# Altium schematic symbol library FPGA_Efinix_Trion.SchLib: 1 symbol
Pins are listed as number, name and electrical type; pins without a type are passive.

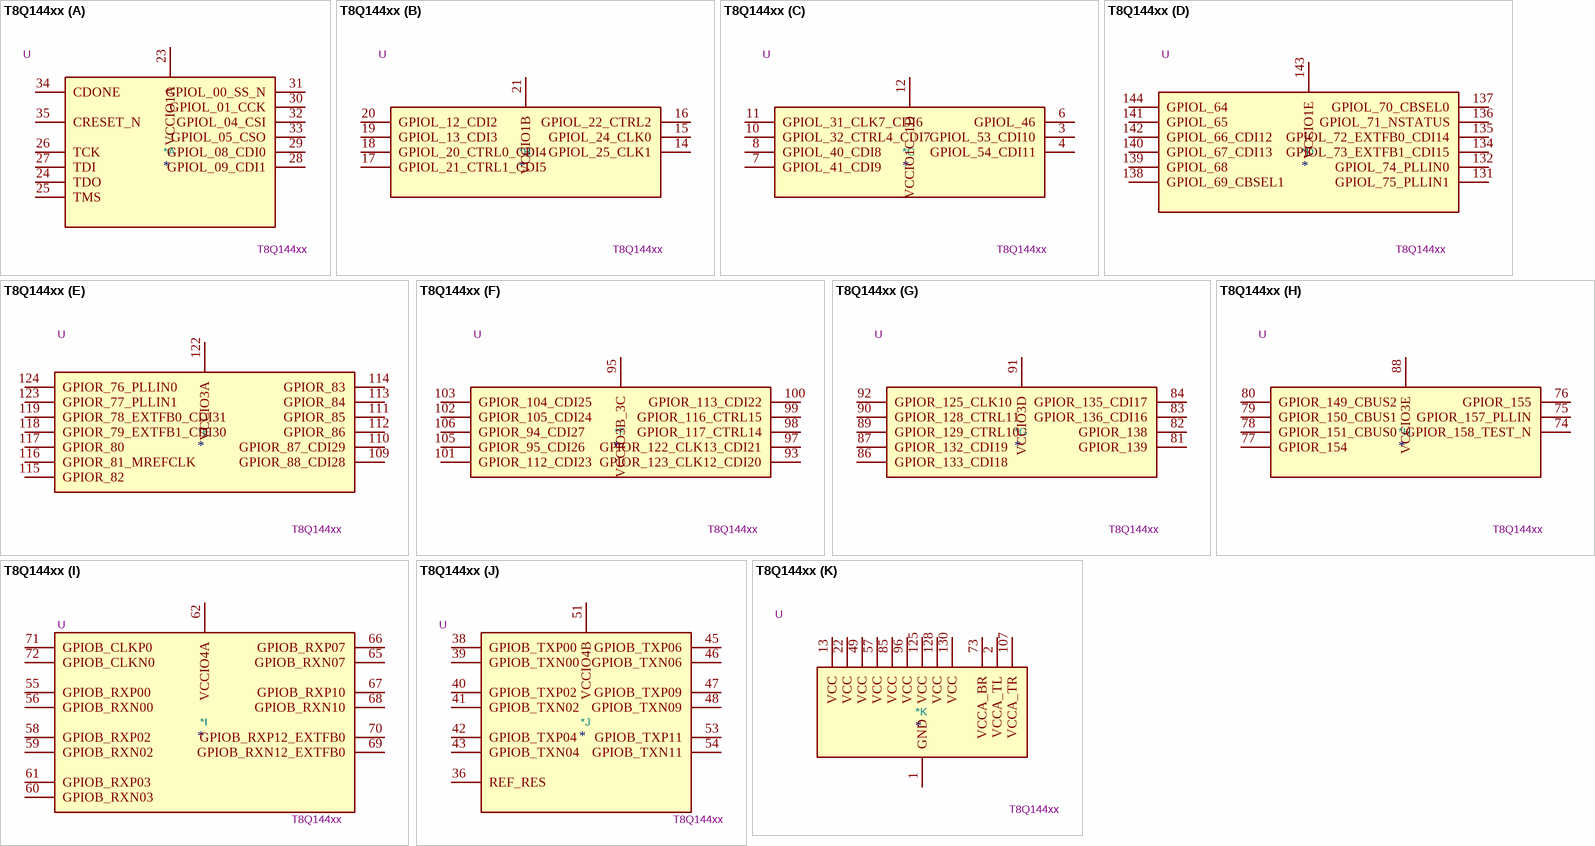
[diagram p0: symbol T8Q144xx]

## T8Q144xx
designator *  value T8Q144xx  Reference: U
ki_keywords: FPGA programmable logic; ki_description: Efinix Trion FPGA, 7384 LEs, LQFP-144; ki_fp_filters: LQFP*20x20mm*P0.5mm*; Footprint: Package_QFP:LQFP-144_20x20mm_P0.5mm; Datasheet: https://www.efinixinc.com/docs/trion8-ds-v4.4.pdf
part A pins: 23 VCCIO1A, 24 TDO, 25 TMS, 26 TCK, 27 TDI, 28 GPIOL_09_CDI1, 29 GPIOL_08_CDI0, 30 GPIOL_01_CCK, 31 GPIOL_00_SS_N, 32 GPIOL_04_CSI, 33 GPIOL_05_CSO, 34 CDONE, 35 CRESET_N
part B pins: 14 GPIOL_25_CLK1, 15 GPIOL_24_CLK0, 16 GPIOL_22_CTRL2, 17 GPIOL_21_CTRL1_CDI5, 18 GPIOL_20_CTRL0_CDI4, 19 GPIOL_13_CDI3, 20 GPIOL_12_CDI2, 21 VCCIO1B
part C pins: 3 GPIOL_53_CDI10, 4 GPIOL_54_CDI11, 6 GPIOL_46, 7 GPIOL_41_CDI9, 8 GPIOL_40_CDI8, 10 GPIOL_32_CTRL4_CDI7, 11 GPIOL_31_CLK7_CDI6, 12 VCCIO1C_1D
part D pins: 131 GPIOL_75_PLLIN1, 132 GPIOL_74_PLLIN0, 134 GPIOL_73_EXTFB1_CDI15, 135 GPIOL_72_EXTFB0_CDI14, 136 GPIOL_71_NSTATUS, 137 GPIOL_70_CBSEL0, 138 GPIOL_69_CBSEL1, 139 GPIOL_68, 140 GPIOL_67_CDI13, 141 GPIOL_65, 142 GPIOL_66_CDI12, 143 VCCIO1E, 144 GPIOL_64
part E pins: 109 GPIOR_88_CDI28, 110 GPIOR_87_CDI29, 111 GPIOR_85, 112 GPIOR_86, 113 GPIOR_84, 114 GPIOR_83, 115 GPIOR_82, 116 GPIOR_81_MREFCLK, 117 GPIOR_80, 118 GPIOR_79_EXTFB1_CDI30, 119 GPIOR_78_EXTFB0_CDI31, 122 VCCIO3A, 123 GPIOR_77_PLLIN1, 124 GPIOR_76_PLLIN0
part F pins: 93 GPIOR_123_CLK12_CDI20, 95 VCCIO3B_3C, 97 GPIOR_122_CLK13_CDI21, 98 GPIOR_117_CTRL14, 99 GPIOR_116_CTRL15, 100 GPIOR_113_CDI22, 101 GPIOR_112_CDI23, 102 GPIOR_105_CDI24, 103 GPIOR_104_CDI25, 105 GPIOR_95_CDI26, 106 GPIOR_94_CDI27
part G pins: 81 GPIOR_139, 82 GPIOR_138, 83 GPIOR_136_CDI16, 84 GPIOR_135_CDI17, 86 GPIOR_133_CDI18, 87 GPIOR_132_CDI19, 89 GPIOR_129_CTRL10, 90 GPIOR_128_CTRL11, 91 VCCIO3D, 92 GPIOR_125_CLK10
part H pins: 74 GPIOR_158_TEST_N, 75 GPIOR_157_PLLIN, 76 GPIOR_155, 77 GPIOR_154, 78 GPIOR_151_CBUS0, 79 GPIOR_150_CBUS1, 80 GPIOR_149_CBUS2, 88 VCCIO3E
part I pins: 55 GPIOB_RXP00, 56 GPIOB_RXN00, 58 GPIOB_RXP02, 59 GPIOB_RXN02, 60 GPIOB_RXN03, 61 GPIOB_RXP03, 62 VCCIO4A, 63 VCCIO4A hidden, 65 GPIOB_RXN07, 66 GPIOB_RXP07, 67 GPIOB_RXP10, 68 GPIOB_RXN10, 69 GPIOB_RXN12_EXTFB0, 70 GPIOB_RXP12_EXTFB0, 71 GPIOB_CLKP0, 72 GPIOB_CLKN0
part J pins: 36 REF_RES, 38 GPIOB_TXP00, 39 GPIOB_TXN00, 40 GPIOB_TXP02, 41 GPIOB_TXN02, 42 GPIOB_TXP04, 43 GPIOB_TXN04, 45 GPIOB_TXP06, 46 GPIOB_TXN06, 47 GPIOB_TXP09, 48 GPIOB_TXN09, 51 VCCIO4B, 52 VCCIO4B hidden, 53 GPIOB_TXP11, 54 GPIOB_TXN11
part K pins: 1 GND, 2 VCCA_TL, 5 GND hidden, 9 GND hidden, 13 VCC, 22 VCC, 37 GND hidden, 44 GND hidden, 49 VCC, 50 GND hidden, 57 VCC, 64 GND hidden, 73 VCCA_BR, 85 VCC, 94 GND hidden, 96 VCC, 104 GND hidden, 107 VCCA_TR, 108 GND hidden, 120 GND hidden, 121 GND hidden, 125 VCC, 126 GND hidden, 127 GND hidden, 128 VCC, 129 GND hidden, 130 VCC, 133 GND hidden